# EAGLE library part WE-MLS-4WAY (library Wurth_Elektronik_EMC_COMPONENTS_rev16c)
Multiline EMI Suppression Ferrite Characteristics High impedance common mode inductor with 2x2 windings made by PCB line connection High rated current with typ. 4 A Broadband filtering because of the NiZn-ferrite core RF common mode inductor for 2, 3 or 4 lines in one component Compact size Operating temperature: –25 ºC to +125 ºC Custom designs on request With the appropriate layout (see below) the impedance (i.e. 4 windings) respectively the current (parallel circuit) could be increased Applications Perfect suitable for absorption of common or differential mode interferences in the field of EMC High-current DC output filters of power supplies e.g. battery chargers, industrial power supplies With one turn the component performes like a 3 or 4 times common mode choke for the signal 4-line sensor application <http://katalog.we-online.de/media/images/eisos/FeMLS_pf2.jpg> Details see: http://katalog.we-online.de/en/pbs/WE-MLS? Updated by Dan Xu 2014-07-08 2014 (C) Wurth Elektronik
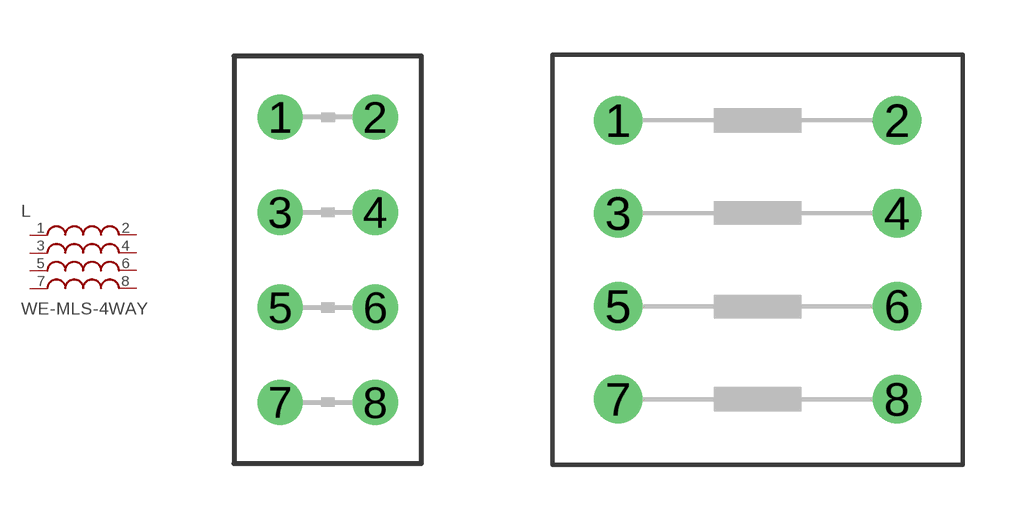
[diagram p20: symbol with the pads of WE-4WAY_74273002; footprints WE-4WAY_74273002, WE-4WAY_742730021]

Designator prefix L

## WE-MLS-4WAY_74273002  [WE-4WAY_74273002]
1  1  pas
2  2  pas
3  3  pas
4  4  pas
5  5  pas
6  6  pas
7  7  pas
8  8  pas

## WE-MLS-4WAY_742730021  [WE-4WAY_742730021]
Pads as for WE-4WAY_74273002

## WE-MLS-4WAY_742730022  [WE-4WAY_742730022]
Pads as for WE-4WAY_74273002

## WE-MLS-4WAY_742730023  [WE-4WAY_742730023]
Pads as for WE-4WAY_74273002

## WE-MLS-4WAY_742730321  [WE-4WAY_742730321]
Pads as for WE-4WAY_74273002

## Footprint WE-4WAY_74273002 (pad centres in mm)
Multiline EMI Suppression Ferrite WE-MLS
drill 0.7: 1 -1.27,3.81; 2 1.27,3.81; 3 -1.27,1.27; 4 1.27,1.27; 5 -1.27,-1.27; 6 1.27,-1.27; 7 -1.27,-3.81; 8 1.27,-3.81

## Footprint WE-4WAY_742730021 (pad centres in mm)
Multiline EMI Suppression Ferrite WE-MLS
drill 0.813: 1 -3.81,3.81; 2 3.81,3.81; 3 -3.81,1.27; 4 3.81,1.27; 5 -3.81,-1.27; 6 3.81,-1.27; 7 -3.81,-3.81; 8 3.81,-3.81

## Footprint WE-4WAY_742730022 (pad centres in mm)
Multiline EMI Suppression Ferrite WE-MLS
drill 0.813: 1 -3.81,3.81; 2 3.81,3.81; 3 -3.81,1.27; 4 3.81,1.27; 5 -3.81,-1.27; 6 3.81,-1.27; 7 -3.81,-3.81; 8 3.81,-3.81

## Footprint WE-4WAY_742730023 (pad centres in mm)
Multiline EMI Suppression Ferrite WE-MLS
drill 0.813: 1 -3.81,3.81; 2 3.81,3.81; 3 -3.81,1.27; 4 3.81,1.27; 5 -3.81,-1.27; 6 3.81,-1.27; 7 -3.81,-3.81; 8 3.81,-3.81

## Footprint WE-4WAY_742730321 (pad centres in mm)
drill 0.9: 1 -3.81,3.81; 2 3.81,3.81; 3 -3.81,1.27; 4 3.81,1.27; 5 -3.81,-1.27; 6 3.81,-1.27; 7 -3.81,-3.81; 8 3.81,-3.81